# EAGLE library part 5_8X5_8-SMD-TOGGLE (library BBALES-TB)
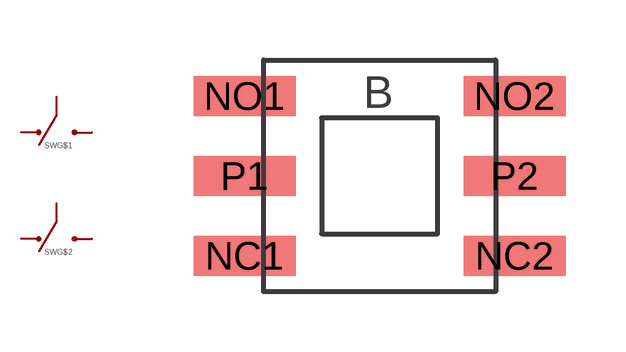
[diagram p1: symbol with the pads of 5_8X5_8-SMD-TOGGLE; footprint 5_8X5_8-SMD-TOGGLE]

Designator prefix SW; gates G$1=TACTSYM_DOUBLE G$2=TACTSYM_DOUBLE

## 5_8X5_8-SMD-TOGGLE  [5_8X5_8-SMD-TOGGLE]
NC1  G$1:NC
NC2  G$2:NC
NO1  G$1:NO
NO2  G$2:NO
P1  G$1:POLE
P2  G$2:POLE

## Footprint 5_8X5_8-SMD-TOGGLE (pad centres in mm)
smd 2.55 x 1: NC1 -3.375,-2; NC2 3.375,-2; NO1 -3.375,2; NO2 3.375,2; P1 -3.375,0; P2 3.375,0